# Altium footprint library Relay_HF32F-005-ZS3.PcbLib: 1 footprints
Each footprint in its own frame and in the unit in brackets; x right, y up, seen from the top. Pads: shape width x height; smd on the part's side, far side on the other; paste and mask are expansions set on the pad; w line width, h text height; cw(c..) or ccw(c..) is an arc to the next point about the centre after c.
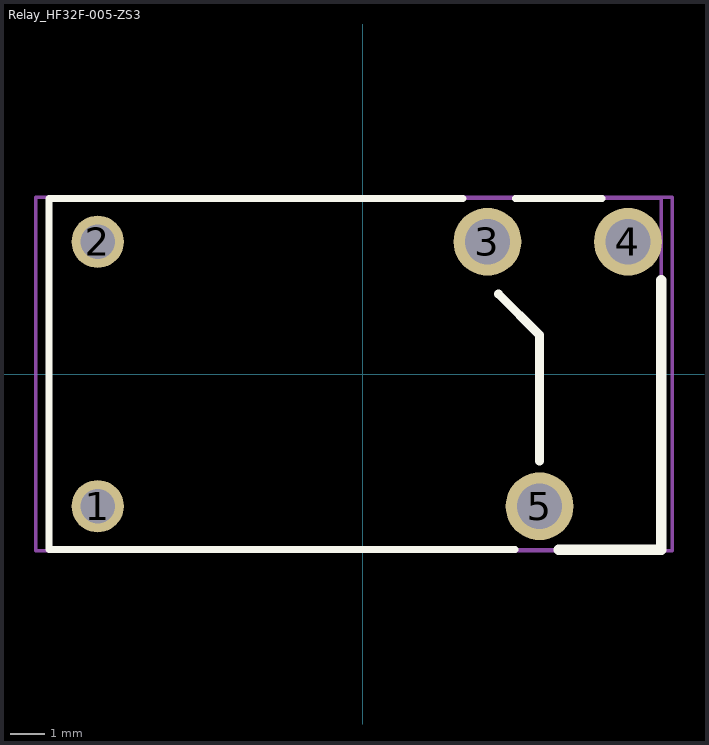
[diagram p0: the footprint, top view; thin cyan lines are the x and y axes]

## Relay_HF32F-005-ZS3 [mm]
pads (5):
  round 1.5 hole 1: 1(-7.62,-3.8) 2(-7.62,3.8)
  round 1.95 hole 1.3: 3(3.58,3.8) 4(7.62,3.8) 5(5.08,-3.8)
Top Overlay:
  lines w0.2: -9.02,-5.05 -9.02,5.05 ; -9.02,-5.05 -9.02,5.05 ; -9.02,-5.05 4.38,-5.05 -9.02,-5.05 ; -9.02,5.05 2.88,5.05 -9.02,5.05 ; 4.38,5.05 6.88,5.05 4.38,5.05
  lines w0.254: 3.9,2.3 5.075,1.125 5.075,-2.5
  lines w0.3: 8.58,-5.05 5.63,-5.05 8.58,-5.05 ; 8.58,-5.05 8.58,2.7 8.58,-5.05
Mechanical 1:
  lines w0.1: -9.398,-5.08 8.89,-5.08 8.89,5.08 -9.398,5.08 -9.398,-5.08 ; -9.02,-5.05 -9.02,5.05 8.58,5.05 8.58,-5.05 -9.02,-5.05
  text ".Designator" at 0,-0.566 h2.5
Mechanical 15:
  text "+" at -0.666,-1 h2
3D body "HF32F Z.stp": height 15.47, standoff -3.83, extent -9.478,-5.1 8.922,5.1